# Altium footprint library PCB - CONNECTOR - NET TIE 2 TO 1 TH 170U.PCBLIB: 1 footprints
Each footprint in its own frame and in the unit in brackets; x right, y up, seen from the top. Pads: shape width x height; smd on the part's side, far side on the other; paste and mask are expansions set on the pad; w line width, h text height; cw(c..) or ccw(c..) is an arc to the next point about the centre after c.
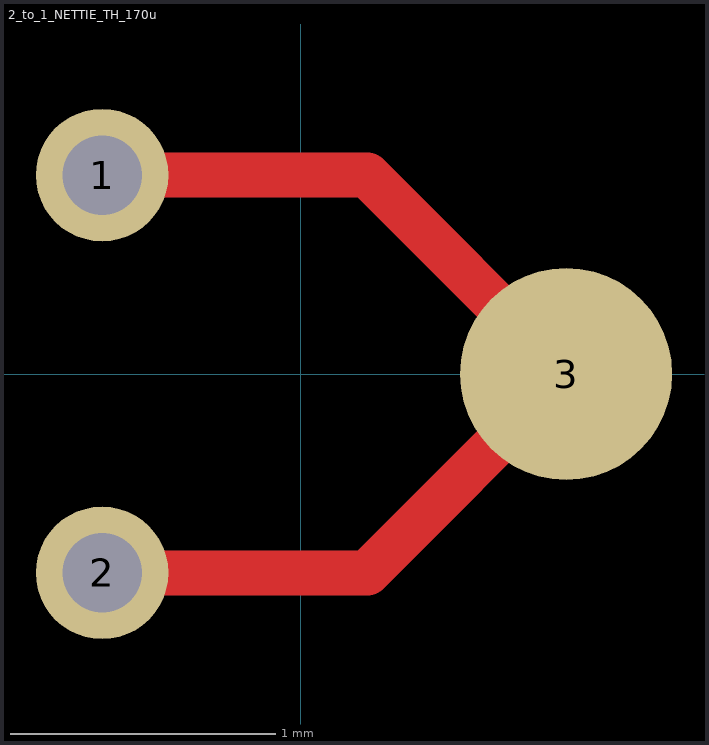
[diagram p0: the footprint, top view; thin cyan lines are the x and y axes]

## 2_to_1_NETTIE_TH_170u [mm] "Net tie to merge 2 nets on different layers"
pads (3):
  round 0.5 hole 0.3 paste-2539.97: 1(-0.75,0.75) 2(-0.75,-0.75)
  round 0.8 smd paste-2539.97 mask+0.102: 3(1,0)
Top Layer:
  lines w0.17: -0.75,-0.75 0.25,-0.75 1,0 0.25,0.75 -0.75,0.75